# Altium schematic symbol library B4B-PH-K.SchLib: 1 symbol
Pins are listed as number, name and electrical type; pins without a type are passive.

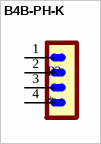
[diagram p0: symbol B4B-PH-K]

## B4B-PH-K
designator P?
<b>HEADER</b>; MP: B4B-PH-K; MF: {'manufacturer': u'JST'}; Price: None; Availability: Unavailable; Value: *; Package: None
footprint B4B-PH-K
pins: 1, 2, 3, 4